# Altium schematic symbol library 5-825433-0.SchLib: 1 symbol
Pins are listed as number, name and electrical type; pins without a type are passive.

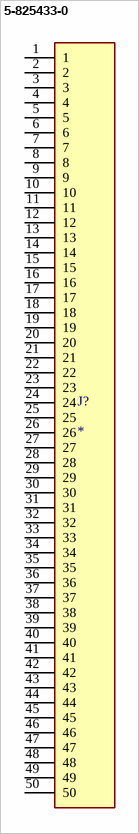
[diagram p0: symbol 5-825433-0]

## 5-825433-0
designator J?
Pin header; pin strips; male; PIN: 50; straight; 2.54mm; THT; 1x50; MP: 5-825433-0; MF: {'manufacturer': u'TE Connectivity'}; Price: None; Availability: Unavailable; Value: *; Package: None
footprint HDRV50W63P254-1X50-12700X254X950N
pins: 1, 2, 3, 4, 5, 6, 7, 8, 9, 10, 11, 12, 13, 14, 15, 16, 17, 18, 19, 20, 21, 22, 23, 24, 25, 26, 27, 28, 29, 30, 31, 32, 33, 34, 35, 36, 37, 38, 39, 40, 41, 42, 43, 44, 45, 46, 47, 48, 49, 50